# Altium schematic symbol library Relay_khodNegahdar.SchLib: 1 symbol
Pins are listed as number, name and electrical type; pins without a type are passive.

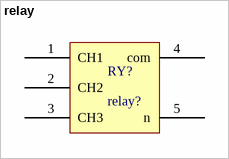
[diagram p0: symbol relay]

## relay
designator RY?, comment relay?
pins: 1 CH1, 2 CH2, 3 CH3, 4 com, 5 n